# Altium footprint library IEEEBOT_PCBLIB.PcbLib: 4 footprints
Each footprint in its own frame and in the unit in brackets; x right, y up, seen from the top. Pads: shape width x height; smd on the part's side, far side on the other; paste and mask are expansions set on the pad; w line width, h text height; cw(c..) or ccw(c..) is an arc to the next point about the centre after c.
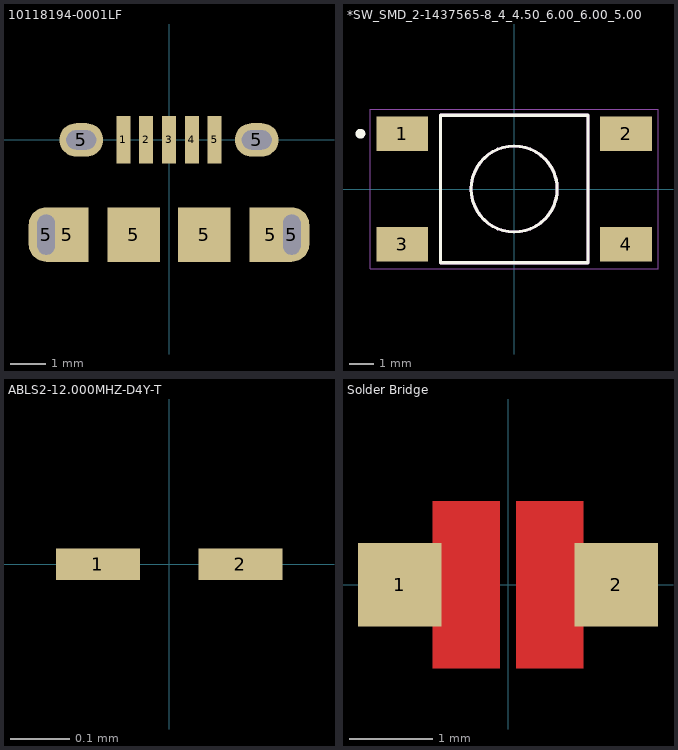
[diagram p0: the footprints below, top view; thin cyan lines are the x and y axes]

## 10118194-0001LF [mm]
pads (13):
  rect 0.4x1.35 smd: 1(-1.3,0) 2(-0.65,0) 3(0,0) 4(0.65,0) 5(1.3,0)
  oval 1x1.55 hole 1.15 slot 0.5 at 0 deg: 5(-3.5,-2.7) 5(3.5,-2.7)
  rect 1.2x1.55 smd: 5(-2.9,-2.7) 5(2.9,-2.7)
  oval 1.25x0.95 hole 0.55 slot 0.85 at 0 deg: 5(-2.5,0) 5(2.5,0)
  rect 1.5x1.55 smd: 5(-1,-2.7) 5(1,-2.7)
3D body "10118194c.stp": height 3.12, standoff -0.15, extent -4.025,-5.459 4.025,0.121
3D body: height 5.83, standoff 0.25, extent 0,-1.327 0,-1.327
3D body: height 0.25, standoff 0, extent 3.9,-1.327 3.9,-1.327

## *SW_SMD_2-1437565-8_4_4.50_6.00_6.00_5.00 [mm]
pads (4):
  rect 2.1x1.4 smd: 1(-4.55,2.25) 2(4.55,2.25) 3(-4.55,-2.25) 4(4.55,-2.25)
Top Overlay:
  circle w0.127: c0,0 r1.75
  circle w0.2: c-6.25,2.25 r0.1
  lines w0.127: -3,-3 -3,3 3,3 3,-3 -3,-3
Mechanical 4:
  circle w0.127: c0,0 r1.75
  circle w0.127: c0,0 r1.75
  lines w0.127: -3,-3 3,-3 ; -3,-3 -3,3 ; -3,-3 3,-3 ; -3,-3 -3,3 ; -3,3 3,3 ; -3,3 3,3 ; 3,-3 3,3 ; 3,-3 3,3
Mechanical 16:
  lines w0.05: -5.85,-3.25 5.85,-3.25 5.85,3.25 -5.85,3.25 -5.85,-3.25

## ABLS2-12.000MHZ-D4Y-T [mm]
pads (2):
  rect 0.142x0.053 smd: 1(-0.121,0) 2(0.121,0)

## Solder Bridge [mm]
pads (2):
  rect 1x1 smd: 1(-1.3,0) 2(1.3,0)
Top Layer:
  region: 0.9,1 0.9,-1 0.1,-1 0.1,1
  region: -0.1,1 -0.1,-1 -0.9,-1 -0.9,1
  region: -0.3,1.7
  region: 0.5,-1.2